# Altium footprint library QFN-15(5.0X5.5).PcbLib: 1 footprints
Each footprint in its own frame and in the unit in brackets; x right, y up, seen from the top. Pads: shape width x height; smd on the part's side, far side on the other; paste and mask are expansions set on the pad; w line width, h text height; cw(c..) or ccw(c..) is an arc to the next point about the centre after c.
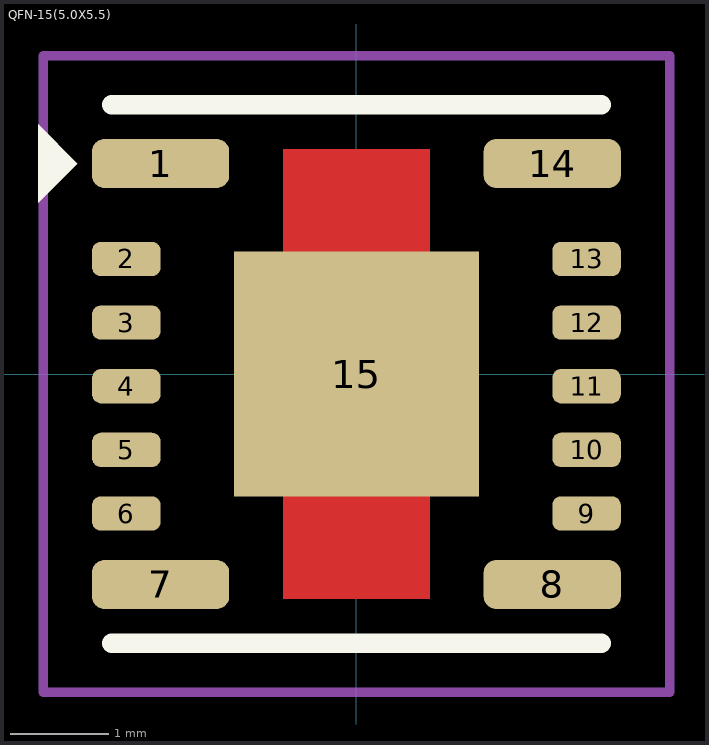
[diagram p0: the footprint, top view; thin cyan lines are the x and y axes]

## QFN-15(5.0X5.5) [mm]
pads (15):
  rrect50% 1.4x0.5 smd: 1(-2,2.15) 7(-2,-2.15) 8(2,-2.15) 14(2,2.15)
  rrect50% 0.7x0.35 smd: 2(-2.35,1.175) 3(-2.35,0.525) 4(-2.35,-0.125) 5(-2.35,-0.775) 6(-2.35,-1.425) 9(2.35,-1.425) 10(2.35,-0.775) 11(2.35,-0.125) 12(2.35,0.525) 13(2.35,1.175)
  rect 2.5x2.5 smd: 15(0,0)
Top Layer:
  rectangle: -0.75,-2.3 0.75,2.3
  region: 0,-1.24
  region: 0,1.25
Top Overlay:
  region: -3.25,1.75 -3.25,2.55 -2.85,2.15
  lines w0.2: -2.5,-2.75 2.5,-2.75 ; -2.5,2.75 2.5,2.75
Top Solder:
  region: 0,-1.24
  region: 0,1.25
Top Courtyard:
  lines w0.1: -3.2,-3.25 3.2,-3.25 3.2,3.25 -3.2,3.25 -3.2,-3.25
3D body "RDA0015A.stp": height 4.1, standoff 0, extent -2.5,-2.75 2.5,2.75